# EAGLE library part TFTLCD (library me433)
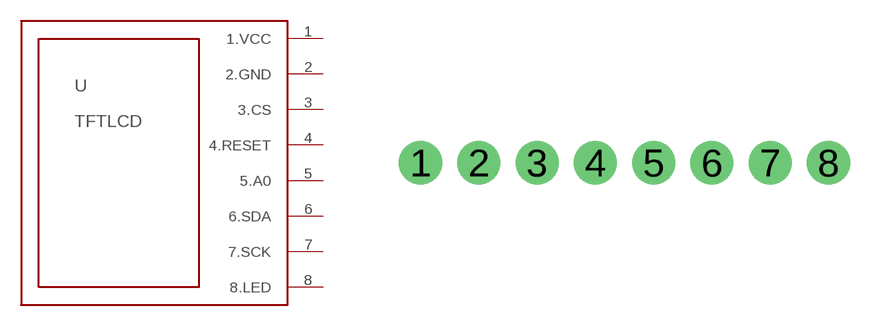
[diagram p4: symbol with the pads of 1X08; footprint 1X08]

Designator prefix -

## TFTLCD  [1X08]
1  1.VCC
2  2.GND
3  3.CS
4  4.RESET
5  5.A0
6  6.SDA
7  7.SCK
8  8.LED

## Footprint 1X08 (pad centres in mm)
Plated Through Hole -8 Pin Specifications: Pin count:8 Pin pitch:0.1" Example device(s): CONN_08
drill 1.016 pad 1.88: 1 0,0; 2 2.54,0; 3 5.08,0; 4 7.62,0; 5 10.16,0; 6 12.7,0; 7 15.24,0; 8 17.78,0